# EAGLE library part 6120XX22323_61203422323 (library WR-BHD)
WR-BHD 2.54 mm Cable Side Characteristics Working Voltage: 250 V Operating Temperature : -40°C up to 105°C UL approval: E323964 UL94-V0 Applications Industrial Production lines Details see: www.we-online.com/components/products/WTB_WR_BHD_BOX_HEADER_2_54MM_FEMALE_CABLE_SIDE Updated by Ella 2026-09-16 2026 (C) Würth Elektronik
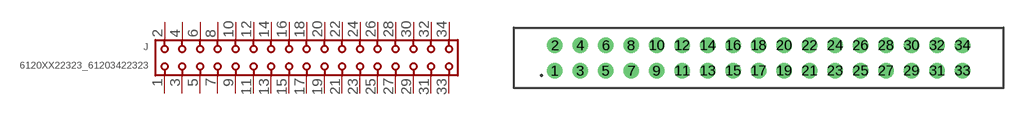
[diagram p167: symbol with the pads of 61203422323; footprint 61203422323]

Designator prefix J

## 6120XX22323_61203422323 (CATEGORY: Connectors; DATASHEET: https://www.we-online.com/redexpert/spec/61203422323?ae; GENDER: Female; LENGTH: 48.63 mm; MANUFACTURER: Würth Elektronik; MATES_WITH: 600612282804; MOUNT: THT; MPN: 61203422323; OPERATING_TEMPERATURE: -40 °C up to +105 °C; PACKAGING: Tray; PINS: 34; PITCH: 2.54mm; RATED_CURRENT: 1 A; SIZE: Transition; TYPE: Straight; VALUE: 61203422323)  [61203422323]
1  1  pas
2  2  pas
3  3  pas
4  4  pas
5  5  pas
6  6  pas
7  7  pas
8  8  pas
9  9  pas
10  10  pas
11  11  pas
12  12  pas
13  13  pas
14  14  pas
15  15  pas
16  16  pas
17  17  pas
18  18  pas
19  19  pas
20  20  pas
21  21  pas
22  22  pas
23  23  pas
24  24  pas
25  25  pas
26  26  pas
27  27  pas
28  28  pas
29  29  pas
30  30  pas
31  31  pas
32  32  pas
33  33  pas
34  34  pas

## Footprint 61203422323 (pad centres in mm)
WR-BHD Wire-to-Board Connectors, 2.54mm, Female, Transition, 34pins
drill 1.02: 1 -21.59,-1.27; 2 -21.59,1.27; 3 -19.05,-1.27; 4 -19.05,1.27; 5 -16.51,-1.27; 6 -16.51,1.27; 7 -13.97,-1.27; 8 -13.97,1.27; 9 -11.43,-1.27; 10 -11.43,1.27; 11 -8.89,-1.27; 12 -8.89,1.27; 13 -6.35,-1.27; 14 -6.35,1.27; 15 -3.81,-1.27; 16 -3.81,1.27; 17 -1.27,-1.27; 18 -1.27,1.27; 19 1.27,-1.27; 20 1.27,1.27; 21 3.81,-1.27; 22 3.81,1.27; 23 6.35,-1.27; 24 6.35,1.27; 25 8.89,-1.27; 26 8.89,1.27; 27 11.43,-1.27; 28 11.43,1.27; 29 13.97,-1.27; 30 13.97,1.27; 31 16.51,-1.27; 32 16.51,1.27; 33 19.05,-1.27; 34 19.05,1.27